# Altium footprint library TD5(3)01MCANFD.PcbLib: 1 footprints
Each footprint in its own frame and in the unit in brackets; x right, y up, seen from the top. Pads: shape width x height; smd on the part's side, far side on the other; paste and mask are expansions set on the pad; w line width, h text height; cw(c..) or ccw(c..) is an arc to the next point about the centre after c.
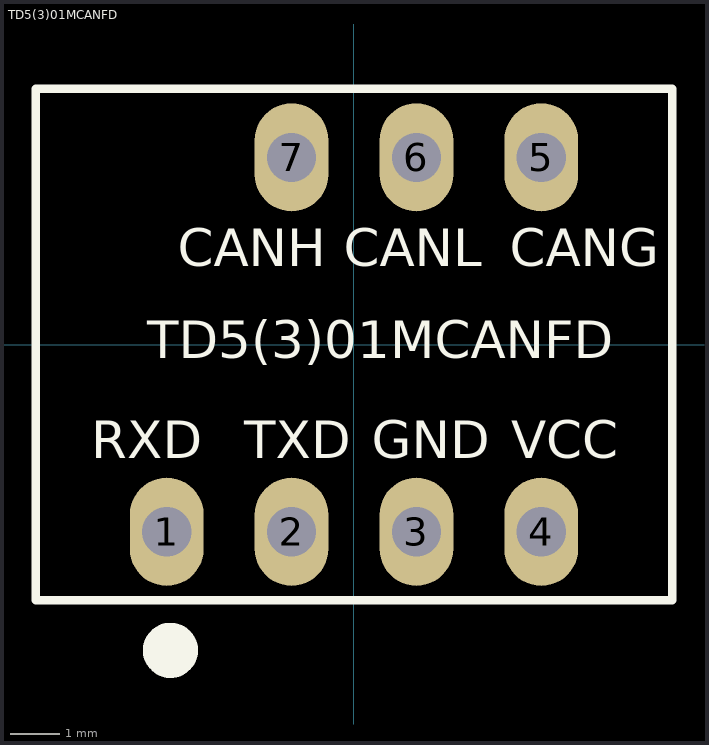
[diagram p0: the footprint, top view; thin cyan lines are the x and y axes]

## TD5(3)01MCANFD [mm]
pads (7):
  oval 1.5x2.2 hole 1: 1(-3.81,-3.81) 2(-1.27,-3.81) 3(1.27,-3.81) 4(3.81,-3.81) 5(3.81,3.81) 6(1.27,3.81) 7(-1.27,3.81)
Top Overlay:
  circle w0.762: c-3.736,-6.223 r0.18
  lines w0.17: -6.475,-5.205 -6.475,5.205 6.475,5.205 6.475,-5.205 -6.475,-5.205
  text "TD5(3)01MCANFD" at -4.21,-0.28 h0.76
  text "RXD" at -5.348,-2.311 h0.76
  text "CANG" at 3.167,1.595 h0.76
  text "CANL" at -0.208,1.595 h0.76
  text "VCC" at 3.198,-2.311 h0.76
  text "GND" at 0.357,-2.311 h0.76
  text "TXD" at -2.238,-2.311 h0.76
  text "CANH" at -3.584,1.595 h0.76